# Altium schematic symbol library Sheet_1_2021-12-20.SCHLIB: 1 symbol
Pins are listed as number, name and electrical type; pins without a type are passive.

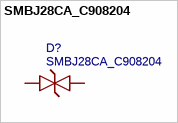
[diagram p0: symbol SMBJ28CA_C908204]

## SMBJ28CA_C908204
designator D?
BOM_Manufacturer: FUXINSEMI; Contributor: LCSC; BOM_Supplier: LCSC; BOM_Supplier Part: C908204; BOM_Manufacturer Part: SMBJ28CA; BOM_JLCPCB Part Class: Extended Part; spicePre: D; spiceSymbolName: SMBJ28CA_C908204
footprint SMB_L4.6-W3.6-LS5.3-BI
pins: 1, 2